# Altium footprint library affichage.PcbLib: 18 footprints (part 2 of 2)
Each footprint in its own frame and in the unit in brackets; x right, y up, seen from the top. Pads: shape width x height; smd on the part's side, far side on the other; paste and mask are expansions set on the pad; w line width, h text height; cw(c..) or ccw(c..) is an arc to the next point about the centre after c.
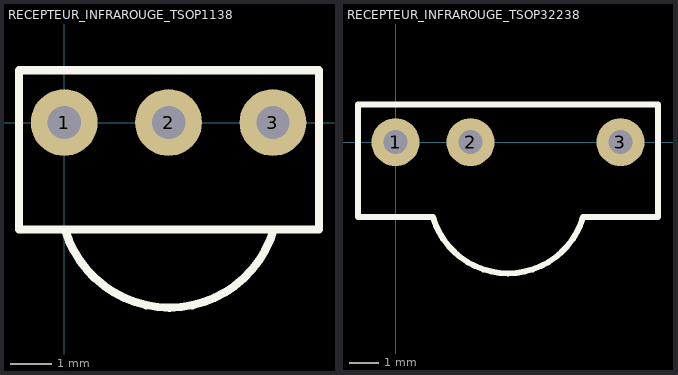
[diagram p1: the footprints below, top view; thin cyan lines are the x and y axes]

## RECEPTEUR_INFRAROUGE_TSOP1138 [mil] "RECEPTEUR INFRAROUGE ; ESPACEMENT BROCHES : 2.54mm"
height 393.7
pads (3):
  round 64 hole 32: 1(0,0) 2(100,0) 3(200,0)
Top Overlay:
  lines w7.87: 0.79,-102.36 ccw(c100.79,-73.2) 200.79,-102.36 ; -43.31,-102.36 244.09,-102.36 244.09,50 -43.31,50 -43.31,-102.36

## RECEPTEUR_INFRAROUGE_TSOP32238 [mil] "RECEPTEUR INFRAROUGE ; ESPACEMENT BROCHES : 2.54mm"
height 393.7
pads (3):
  round 64 hole 32: 1(0,0) 2(100,0) 3(300,0)
Top Overlay:
  lines w7.87: -50,-100 -50,50 350,50 350,-100 250,-100 cw(c150,-70.83) 50,-100 -50,-100
3D body "photo module tsop1738.STEP": height 531.5, standoff -125.98, extent -47.24,-167.32 346.46,145.67